# Altium footprint library mySwitches.PcbLib: 14 footprints
Each footprint in its own frame and in the unit in brackets; x right, y up, seen from the top. Pads: shape width x height; smd on the part's side, far side on the other; paste and mask are expansions set on the pad; w line width, h text height; cw(c..) or ccw(c..) is an arc to the next point about the centre after c.
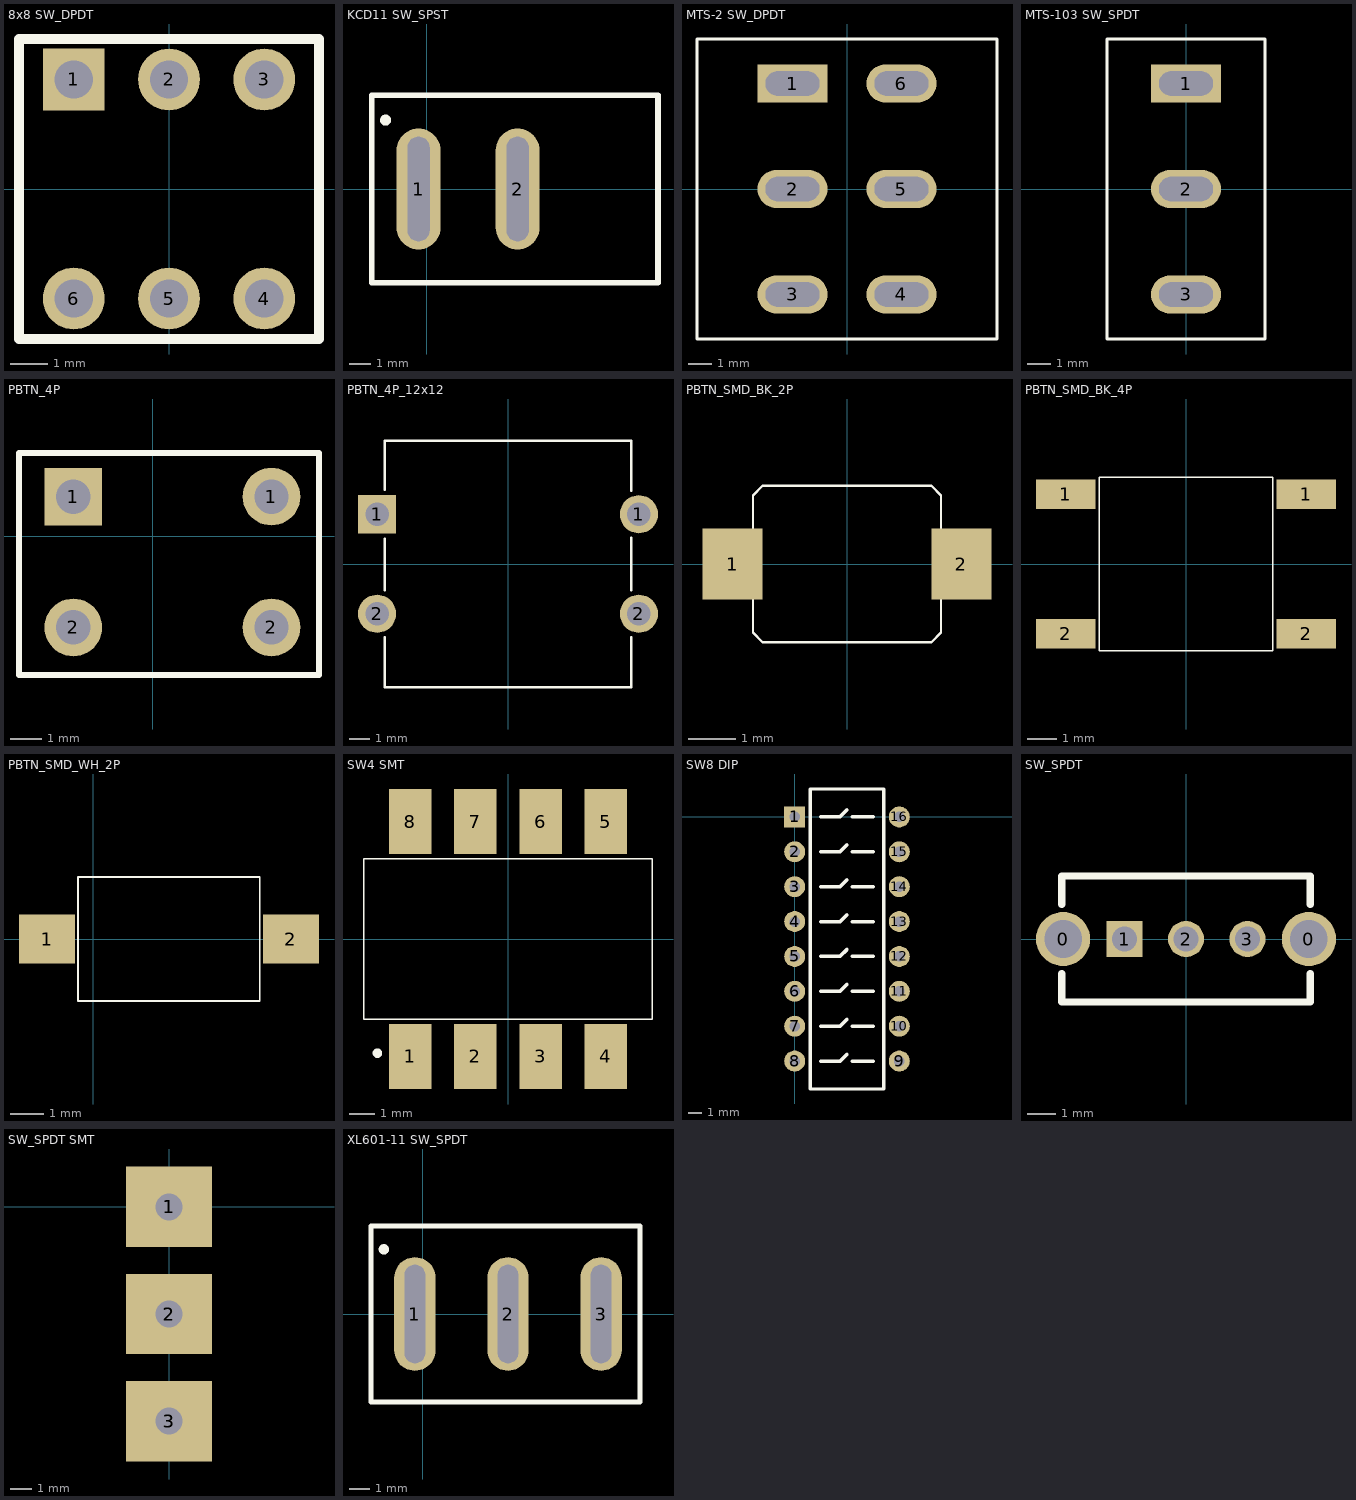
[diagram p0: the footprints below, top view; thin cyan lines are the x and y axes]

## 8x8 SW_DPDT [mil]
height 317
pads (6):
  rect 65x65 hole 40: 1(-100,115)
  round 65 hole 40: 2(0,115) 3(100,115) 4(100,-115) 5(0,-115) 6(-100,-115)
Top Overlay:
  lines w10: -157.5,-157.5 157.5,-157.5 157.5,157.5 -157.5,157.5 -157.5,-157.5
3D body: height 323, standoff 0, extent -160,-160 160,160

## KCD11 SW_SPST [mil] "2-Pin"
height 483
pads (2):
  oval 80x220 hole 40 slot 190 at 90 deg: 1(-15,0) 2(165,0)
Top Overlay:
  circle w10: c-75,125 r5
  lines w10: -100,-170 -100,170 420,170 420,-170 -100,-170
3D body: height 483, standoff 0, extent -100,-170 420,170

## MTS-2 SW_DPDT [mil] "DPDT Switch"
height 400
pads (6):
  rect 120x65 hole 42 slot 92 at 0 deg: 1(-93,180)
  oval 120x65 hole 42 slot 92 at 0 deg: 2(-93,0) 3(-93,-180) 4(93,-180) 5(93,0) 6(93,180)
Top Overlay:
  lines w5: -256,-256 256,-256 256,256 -256,256 -256,-256
3D body: height 400, standoff 0, extent -255,-255 255,255

## MTS-103 SW_SPDT [mil] "SPDT Switch"
height 400
pads (3):
  rect 120x65 hole 42 slot 92 at 0 deg: 1(0,180)
  oval 120x65 hole 42 slot 92 at 0 deg: 2(0,0) 3(0,-180)
Top Overlay:
  lines w5: -135,-256 -135,256 135,256 135,-256 -135,-256
3D body: height 400, standoff 0, extent -135,-255 135,255

## PBTN_4P [mm] "Double-Pole, Single-Throw Switch; 4 Leads"
pads (4):
  rect 1.85x1.85 hole 1.1: 1(-2.54,1.27)
  round 1.85 hole 1.1: 1(3.81,1.27) 2(-2.54,-2.921) 2(3.81,-2.921)
Top Overlay:
  lines w0.2: -4.28,-4.445 5.334,-4.445 5.334,2.667 -4.28,2.667 -4.28,-4.445
3D body: height 2.54, standoff 0, extent -4.318,-4.445 5.334,2.667

## PBTN_4P_12x12 [mil] "Double-Pole, Single-Throw Switch; 4 Leads"
height 155
pads (4):
  rect 72.83x72.83 hole 45: 1(-250,95)
  round 72.83 hole 45: 1(250,95) 2(-250,-95) 2(250,-95)
Top Overlay:
  lines w5: -235,-140 -235,-235 235,-235 235,-140 ; -235,-50 -235,48 ; -235,142 -235,235 235,235 235,140 ; 235,-50 235,50
3D body: height 155, standoff 0, extent -235,-235 235,235

## PBTN_SMD_BK_2P [mil]
pads (2):
  rect 50x59 smd: 1(-95,0) 2(95,0)
Top Overlay:
  lines w2: -78,-57 -70,-65 70,-65 78,-57 78,57 70,65 -70,65 -78,57 -78,-57
3D body: height 100, standoff 0, extent -78,-65 78,65

## PBTN_SMD_BK_4P [mil]
pads (4):
  rect 80x40 smd: 1(-162,94) 1(162,94) 2(-162,-94) 2(162,-94)
Top Overlay:
  lines w2: -117,-117 117,-117 117,117 -117,117 -117,-117
3D body: height 100, standoff 0, extent -117,-117 117,117

## PBTN_SMD_WH_2P [mil]
pads (2):
  rect 67x59 smd: 1(-55,0) 2(236.4,0)
Top Overlay:
  lines w2: -18,-74 199,-74 199,74 -18,74 -18,-74
3D body: height 100, standoff 0, extent -18,-74 199,74

## SW4 SMT [mil] "4 Switches, SMT"
height 163
pads (8):
  rect 65x100 smd: 1(-150,-180) 2(-50,-180) 3(50,-180) 4(150,-180) 5(150,180) 6(50,180) 7(-50,180) 8(-150,180)
Top Overlay:
  circle w10: c-200.24,-175 r2.24
  lines w2: -221,-123 221,-123 221,123 -221,123 -221,-123
3D body: height 163, standoff 0, extent -221,-123 221,123

## SW8 DIP [mil]
pads (16):
  rect 60x60 hole 30: 1(0,0)
  round 60 hole 30: 2(0,-100) 3(0,-200) 4(0,-300) 5(0,-400) 6(0,-500) 7(0,-600) 8(0,-700) 9(300,-700) 10(300,-600) 11(300,-500) 12(300,-400) 13(300,-300) 14(300,-200) 15(300,-100) 16(300,0)
Top Overlay:
  lines w10: 75,-700 115,-700 130,-700 150,-680 ; 75,-600 115,-600 130,-600 150,-580 ; 75,-500 115,-500 130,-500 150,-480 ; 75,-400 115,-400 130,-400 150,-380 ; 75,-300 115,-300 130,-300 150,-280 ; 75,-200 115,-200 130,-200 150,-180 ; 75,-100 115,-100 130,-100 150,-80 ; 75,0 115,0 130,0 150,20 ; 165,-700 225,-700 ; 165,-600 225,-600 ; 165,-500 225,-500 ; 165,-400 225,-400 ; 165,-300 225,-300 ; 165,-200 225,-200 ; 165,-100 225,-100 ; 165,0 225,0 ; 45,-780 45,80 255,80 255,-780 45,-780
3D body: height 10, standoff 0, extent -50,-800 350,100

## SW_SPDT [mil]
height 330
pads (5):
  round 75 hole 52: 0(-170,0) 0(170,0)
  rect 50x50 hole 35: 1(-85,0)
  round 50 hole 35: 2(0,0) 3(85,0)
Top Overlay:
  lines w10: -172,-48 -172,-87 172,-87 172,-48 ; -172,48 -172,87 172,87 172,48
3D body: height 330, standoff 0, extent -175,-90 175,90

## SW_SPDT SMT [mil]
pads (6):
  rect 160x150 smd: 1(0,0) 2(0,-200) 3(0,-400)
  rect 75x75 hole 50: 1(0,0)
  round 75 hole 50: 2(0,-200) 3(0,-400)
3D body: height 100, standoff 0, extent -80,-475 80,75

## XL601-11 SW_SPDT [mil] "3-Pin"
height 483
pads (3):
  oval 80x220 hole 40 slot 190 at 90 deg: 1(-15,0) 2(165,0) 3(345,0)
Top Overlay:
  circle w10: c-75,125 r5
  lines w10: -100,-170 -100,170 420,170 420,-170 -100,-170
3D body: height 483, standoff 0, extent -100,-170 420,170